# EAGLE library part EFM8UB10F8G-C-QFN20 (library EFM8UB10F8G-C-QFN20)
MCU 8-Bit EFM8 8051 RISC 8KB Flash 3V 20-Pin QFN Check availability <https://pricing.snapeda.com/parts/EFM8UB10F8G-C-QFN20/Silicon%20Labs/view-part?ref=eda>
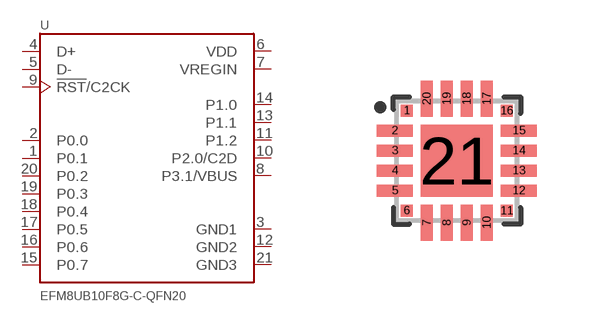
[diagram p0: symbol with the pads of QFN50P300X300X80-20N; footprint QFN50P300X300X80-20N]

Designator prefix U

## EFM8UB10F8G-C-QFN20 (Availability: In Stock; Check_prices: https://www.snapeda.com/parts/EFM8UB10F8G-C-QFN20/Silicon+Labs/view-part/?ref=eda; Description: CIP-51 8051 Universal Bee Microcontroller IC 8-Bit 50MHz 8KB (8K x 8) FLASH 20-QFN (3x3); MF: Silicon Labs; MP: EFM8UB10F8G-C-QFN20; Package: QFN-20 Silicon Labs; Price: None; Purchase-URL: https://www.snapeda.com/api/url_track_click_mouser/?unipart_id=422879&manufacturer=Silicon Labs&part_name=EFM8UB10F8G-C-QFN20&search_term=None; SnapEDA_Link: https://www.snapeda.com/parts/EFM8UB10F8G-C-QFN20/Silicon+Labs/view-part/?ref=snap)  [QFN50P300X300X80-20N]
1  P0.1
2  P0.0
3  GND1  pwr
4  D+  in
5  D-  in
6  VDD  pwr
7  VREGIN  pwr
8  P3.1/VBUS
9  !RST!/C2CK  in
10  P2.0/C2D
11  P1.2
12  GND2  pwr
13  P1.1
14  P1.0
15  P0.7
16  P0.6
17  P0.5
18  P0.4
19  P0.3
20  P0.2
21  GND3  pwr

## Footprint QFN50P300X300X80-20N (pad centres in mm)
smd 0.3 x 0.3: 1 -1.25,1.25; 6 -1.25,-1.25; 11 1.25,-1.25; 16 1.25,1.25
smd 0.9 x 0.3: 2 -1.55,0.75; 3 -1.55,0.25; 4 -1.55,-0.25; 5 -1.55,-0.75; 12 1.55,-0.75; 13 1.55,-0.25; 14 1.55,0.25; 15 1.55,0.75
smd 0.3 x 0.9: 7 -0.75,-1.55; 8 -0.25,-1.55; 9 0.25,-1.55; 10 0.75,-1.55; 17 0.75,1.55; 18 0.25,1.55; 19 -0.25,1.55; 20 -0.75,1.55
smd 1.8 x 1.8: 21 0,0